# Altium footprint library QFN_Sq_65P_Side_V.PcbLib: 2 footprints
Each footprint in its own frame and in the unit in brackets; x right, y up, seen from the top. Pads: shape width x height; smd on the part's side, far side on the other; paste and mask are expansions set on the pad; w line width, h text height; cw(c..) or ccw(c..) is an arc to the next point about the centre after c.
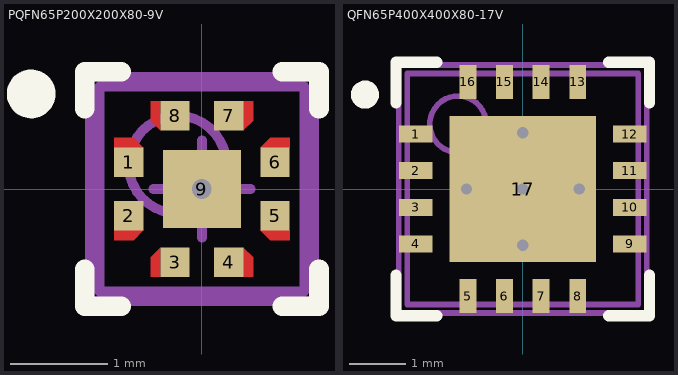
[diagram p0: the footprints below, top view; thin cyan lines are the x and y axes]

## PQFN65P200X200X80-9V [mm] "PQFN, 8-Leads, Body 2x2mm, Pitch 0.65mm, NSC Recommended"
height 0.8
pads (9):
  rect 0.3x0.3 smd paste-0.15 mask-0.15: 1(-0.75,0.275) 2(-0.75,-0.275) 3(-0.275,-0.75) 4(0.275,-0.75) 5(0.75,-0.275) 6(0.75,0.275) 7(0.275,0.75) 8(-0.275,0.75)
  rect 0.8x0.8 smd paste-0.4 mask+0.051: 9(0,0)
via 0,0 diameter 0.5 hole 0.2
Top Layer:
  region: -0.9,0.425 -0.9,0.525 -0.7,0.525 -0.6,0.425
  region: -0.9,-0.425 -0.9,-0.525 -0.7,-0.525 -0.6,-0.425
  region: 0.425,-0.9 0.525,-0.9 0.525,-0.7 0.425,-0.6
  region: -0.425,-0.9 -0.525,-0.9 -0.525,-0.7 -0.425,-0.6
  region: 0.9,0.425 0.9,0.525 0.7,0.525 0.6,0.425
  region: 0.9,-0.425 0.9,-0.525 0.7,-0.525 0.6,-0.425
  region: -0.425,0.9 -0.525,0.9 -0.525,0.7 -0.425,0.6
  region: 0.425,0.9 0.525,0.9 0.525,0.7 0.425,0.6
Top Overlay:
  circle w0.25: c-1.75,0.975 r0.125
  lines w0.2: -1.2,-0.825 -1.2,-1.2 -0.825,-1.2 ; -1.2,0.825 -1.2,1.2 -0.825,1.2 ; 0.825,-1.2 1.2,-1.2 1.2,-0.825 ; 0.825,1.2 1.2,1.2 1.2,0.825
Top Paste:
  rectangle: -0.35,-0.35 0.35,0.35
  region: -1,0.125 -1,0.525 -0.8,0.525 -0.7,0.425 -0.7,0.125
  region: -1,-0.125 -1,-0.525 -0.8,-0.525 -0.7,-0.425 -0.7,-0.125
  region: 0.125,-1 0.525,-1 0.525,-0.8 0.425,-0.7 0.125,-0.7
  region: -0.125,-1 -0.525,-1 -0.525,-0.8 -0.425,-0.7 -0.125,-0.7
  region: 1,0.125 1,0.525 0.8,0.525 0.7,0.425 0.7,0.125
  region: 1,-0.125 1,-0.525 0.8,-0.525 0.7,-0.425 0.7,-0.125
  region: -0.125,1 -0.525,1 -0.525,0.8 -0.425,0.7 -0.125,0.7
  region: 0.125,1 0.525,1 0.525,0.8 0.425,0.7 0.125,0.7
Top Solder:
  region: -0.95,0.575 -0.65,0.575 -0.55,0.475 -0.55,0.075 -0.95,0.075
  region: -0.95,-0.575 -0.65,-0.575 -0.55,-0.475 -0.55,-0.075 -0.95,-0.075
  region: 0.575,-0.95 0.575,-0.65 0.475,-0.55 0.075,-0.55 0.075,-0.95
  region: -0.575,-0.95 -0.575,-0.65 -0.475,-0.55 -0.075,-0.55 -0.075,-0.95
  region: 0.95,0.575 0.65,0.575 0.55,0.475 0.55,0.075 0.95,0.075
  region: 0.95,-0.575 0.65,-0.575 0.55,-0.475 0.55,-0.075 0.95,-0.075
  region: -0.575,0.95 -0.575,0.65 -0.475,0.55 -0.075,0.55 -0.075,0.95
  region: 0.575,0.95 0.575,0.65 0.475,0.55 0.075,0.55 0.075,0.95
Mechanical 13:
  circle w0.1: c-0.25,0.25 r0.5
  lines w0.1: -1.05,-1.05 -1.05,1.05 1.05,1.05 1.05,-1.05 -1.05,-1.05
Mechanical 15:
  lines w0.1: -0.5,0 0.5,0 ; 0,-0.5 0,0.5 ; -1.15,-1.15 1.15,-1.15 1.15,1.15 -1.15,1.15 -1.15,-1.15
3D body: height 0.8, standoff 0, extent -1.049,-1.049 1.049,1.049

## QFN65P400X400X80-17V [mm] "QFN, 16-Leads, Body 4x4mm, Pitch 0.65mm, NSC Recommended"
height 0.8
pads (17):
  rect 0.6x0.3 smd paste-0.15 mask+0.051: 1(-1.9,0.975) 2(-1.9,0.325) 3(-1.9,-0.325) 4(-1.9,-0.975) 9(1.9,-0.975) 10(1.9,-0.325) 11(1.9,0.325) 12(1.9,0.975)
  rect 0.3x0.6 smd paste-0.15 mask+0.051: 5(-0.975,-1.9) 6(-0.325,-1.9) 7(0.325,-1.9) 8(0.975,-1.9) 13(0.975,1.9) 14(0.325,1.9) 15(-0.325,1.9) 16(-0.975,1.9)
  rect 2.6x2.6 smd paste-1.3 mask+0.051: 17(0,0)
via 0,-1 diameter 0.5 hole 0.2
via 0,1 diameter 0.5 hole 0.2
via -1,0 diameter 0.5 hole 0.2
via 1,0 diameter 0.5 hole 0.2
via 0,0 diameter 0.5 hole 0.2
Top Overlay:
  circle w0.25: c-2.8,1.675 r0.125
  lines w0.2: -2.25,-1.525 -2.25,-2.25 -1.525,-2.25 ; -2.25,1.525 -2.25,2.25 -1.525,2.25 ; 1.525,-2.25 2.25,-2.25 2.25,-1.525 ; 1.525,2.25 2.25,2.25 2.25,1.525
Top Paste:
  rectangle: 0.1,-1.2 1.2,-0.1
  region: -0.1,-0.1 -1.2,-0.1 -1.2,-1.2 -0.1,-1.2
  region: -0.1,1.2 -1.2,1.2 -1.2,0.1 -0.1,0.1
  rectangle: 0.1,0.1 1.2,1.2
  region: 0.825,2.4 0.825,1.7 1.125,1.7 1.125,2.4
  region: 0.175,2.4 0.175,1.7 0.475,1.7 0.475,2.4
  region: -0.475,2.4 -0.475,1.7 -0.175,1.7 -0.175,2.4
  region: -1.125,2.4 -1.125,1.7 -0.825,1.7 -0.825,2.4
  region: 2.4,-0.825 1.7,-0.825 1.7,-1.125 2.4,-1.125
  region: 2.4,-0.175 1.7,-0.175 1.7,-0.475 2.4,-0.475
  region: 2.4,0.475 1.7,0.475 1.7,0.175 2.4,0.175
  region: 2.4,1.125 1.7,1.125 1.7,0.825 2.4,0.825
  region: -0.825,-2.4 -0.825,-1.7 -1.125,-1.7 -1.125,-2.4
  region: -0.175,-2.4 -0.175,-1.7 -0.475,-1.7 -0.475,-2.4
  region: 0.475,-2.4 0.475,-1.7 0.175,-1.7 0.175,-2.4
  region: 1.125,-2.4 1.125,-1.7 0.825,-1.7 0.825,-2.4
  rectangle: -2.4,-1.125 -1.7,-0.825
  rectangle: -2.4,-0.475 -1.7,-0.175
  rectangle: -2.4,0.175 -1.7,0.475
  rectangle: -2.4,0.825 -1.7,1.125
Mechanical 13:
  circle w0.1: c-1.15,1.15 r0.5
  lines w0.1: -2.05,-2.05 2.05,-2.05 2.05,2.05 -2.05,2.05 -2.05,-2.05
Mechanical 15:
  lines w0.1: -0.5,0 0.5,0 ; 0,-0.5 0,0.5 ; -2.2,-2.2 2.2,-2.2 2.2,2.2 -2.2,2.2 -2.2,-2.2
3D body: height 0.8, standoff 0, extent -2.05,-2.05 2.05,2.05